# Altium footprint library TI_LM96570SQXNOPB.PcbLib: 1 footprints
Each footprint in its own frame and in the unit in brackets; x right, y up, seen from the top. Pads: shape width x height; smd on the part's side, far side on the other; paste and mask are expansions set on the pad; w line width, h text height; cw(c..) or ccw(c..) is an arc to the next point about the centre after c.
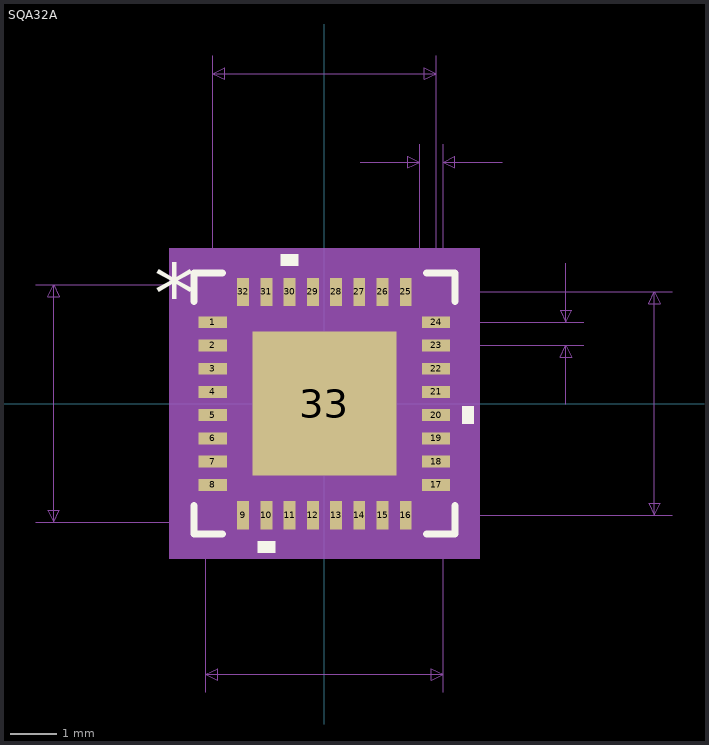
[diagram p0: the footprint, top view; thin cyan lines are the x and y axes]

## SQA32A [mil]
pads (33):
  rect 24x10 smd paste-5: 1(-94.5,68.9) 2(-94.5,49.21) 3(-94.5,29.53) 4(-94.5,9.84) 5(-94.5,-9.84) 6(-94.5,-29.53) 7(-94.5,-49.21) 8(-94.5,-68.9) 17(94.5,-68.9) 18(94.5,-49.21) 19(94.5,-29.53) 20(94.5,-9.84) 21(94.5,9.84) 22(94.5,29.53) 23(94.5,49.21) 24(94.5,68.9)
  rect 10x24 smd paste-5: 9(-68.9,-94.5) 10(-49.21,-94.5) 11(-29.53,-94.5) 12(-9.84,-94.5) 13(9.84,-94.5) 14(29.53,-94.5) 15(49.21,-94.5) 16(68.9,-94.5) 25(68.9,94.5) 26(49.21,94.5) 27(29.53,94.5) 28(9.84,94.5) 29(-9.84,94.5) 30(-29.53,94.5) 31(-49.21,94.5) 32(-68.9,94.5)
  rect 122x122 smd paste-61: 33(0,0)
Top Overlay:
  region: -22.03,116.5 -37.03,116.5 -37.03,126.5 -22.03,126.5
  region: 116.5,-2.34 126.5,-2.34 126.5,-17.34 116.5,-17.34
  region: -41.71,-116.5 -56.71,-116.5 -56.71,-126.5 -41.71,-126.5
  lines w6: -110.5,-86.37 -110.5,-110.5 -86.37,-110.5 ; -110.5,86.37 -110.5,110.5 -86.37,110.5 ; 86.37,-110.5 110.5,-110.5 110.5,-86.37 ; 86.37,110.5 110.5,110.5 110.5,86.37
  text "*" at -144,68.74 h50
Top Paste:
  region: 54.94,-3.94 3.94,-3.94 3.94,-54.94 54.94,-54.94
  region: 54.94,54.94 3.94,54.94 3.94,3.94 54.94,3.94
  region: -3.94,-3.94 -54.94,-3.94 -54.94,-54.94 -3.94,-54.94
  region: -3.94,54.94 -54.94,54.94 -54.94,3.94 -3.94,3.94
  region: -63.9,114.5 -73.9,114.5 -73.9,90.5 -63.9,90.5
  region: -44.21,114.5 -54.21,114.5 -54.21,90.5 -44.21,90.5
  region: -24.53,114.5 -34.53,114.5 -34.53,90.5 -24.53,90.5
  region: -4.84,114.5 -14.84,114.5 -14.84,90.5 -4.84,90.5
  region: 14.84,114.5 4.84,114.5 4.84,90.5 14.84,90.5
  region: 34.53,114.5 24.53,114.5 24.53,90.5 34.53,90.5
  region: 54.21,114.5 44.21,114.5 44.21,90.5 54.21,90.5
  region: 73.9,114.5 63.9,114.5 63.9,90.5 73.9,90.5
  region: 114.5,73.9 90.5,73.9 90.5,63.9 114.5,63.9
  region: 114.5,54.21 90.5,54.21 90.5,44.21 114.5,44.21
  region: 114.5,34.53 90.5,34.53 90.5,24.53 114.5,24.53
  region: 114.5,14.84 90.5,14.84 90.5,4.84 114.5,4.84
  region: 114.5,-4.84 90.5,-4.84 90.5,-14.84 114.5,-14.84
  region: 114.5,-24.53 90.5,-24.53 90.5,-34.53 114.5,-34.53
  region: 114.5,-44.21 90.5,-44.21 90.5,-54.21 114.5,-54.21
  region: 114.5,-63.9 90.5,-63.9 90.5,-73.9 114.5,-73.9
  region: 73.9,-90.5 63.9,-90.5 63.9,-114.5 73.9,-114.5
  region: 54.21,-90.5 44.21,-90.5 44.21,-114.5 54.21,-114.5
  region: 34.53,-90.5 24.53,-90.5 24.53,-114.5 34.53,-114.5
  region: 14.84,-90.5 4.84,-90.5 4.84,-114.5 14.84,-114.5
  region: -4.84,-90.5 -14.84,-90.5 -14.84,-114.5 -4.84,-114.5
  region: -24.53,-90.5 -34.53,-90.5 -34.53,-114.5 -24.53,-114.5
  region: -44.21,-90.5 -54.21,-90.5 -54.21,-114.5 -44.21,-114.5
  region: -63.9,-90.5 -73.9,-90.5 -73.9,-114.5 -63.9,-114.5
  region: -90.5,-63.9 -114.5,-63.9 -114.5,-73.9 -90.5,-73.9
  region: -90.5,-44.21 -114.5,-44.21 -114.5,-54.21 -90.5,-54.21
  region: -90.5,-24.53 -114.5,-24.53 -114.5,-34.53 -90.5,-34.53
  region: -90.5,-4.84 -114.5,-4.84 -114.5,-14.84 -90.5,-14.84
  region: -90.5,14.84 -114.5,14.84 -114.5,4.84 -90.5,4.84
  region: -90.5,34.53 -114.5,34.53 -114.5,24.53 -90.5,24.53
  region: -90.5,54.21 -114.5,54.21 -114.5,44.21 -90.5,44.21
  region: -90.5,73.9 -114.5,73.9 -114.5,63.9 -90.5,63.9
Mechanical 5:
  region: 131.5,-131.5 -131.5,-131.5 -131.5,131.5 131.5,131.5
Mechanical 7:
  lines w1: -244.5,-100.5 100.5,-100.5 ; -244.5,100.5 100.5,100.5 100.5,-244.5 ; -100.5,-244.5 -100.5,100.5 ; -94.5,68.9 -94.5,294.5 ; 30.5,204.5 80.5,204.5 ; 68.9,-94.5 294.5,-94.5 ; 68.9,94.5 294.5,94.5 ; 80.5,68.9 80.5,219.5 ; 94.5,49.21 219.5,49.21 ; 94.5,294.5 94.5,68.9 219.5,68.9 ; 100.5,68.9 100.5,219.5 ; 150.5,204.5 100.5,204.5 ; 204.5,-0.79 204.5,49.21 ; 204.5,118.9 204.5,68.9 ; -229.5,-100.5 -224.5,-90.5 -234.5,-90.5 -229.5,-100.5 ; -229.5,-100.5 -229.5,100.5 ; -229.5,100.5 -224.5,90.5 -234.5,90.5 -229.5,100.5 ; -100.5,-229.5 -90.5,-234.5 -90.5,-224.5 -100.5,-229.5 ; -100.5,-229.5 100.5,-229.5 ; -94.5,279.5 -84.5,274.5 -84.5,284.5 -94.5,279.5 ; -94.5,279.5 94.5,279.5 ; 80.5,204.5 70.5,199.5 70.5,209.5 80.5,204.5 ; 94.5,279.5 84.5,274.5 84.5,284.5 94.5,279.5 ; 100.5,-229.5 90.5,-234.5 90.5,-224.5 100.5,-229.5 ; 100.5,204.5 110.5,199.5 110.5,209.5 100.5,204.5 ; 204.5,49.21 209.5,39.21 199.5,39.21 204.5,49.21 ; 204.5,68.9 209.5,78.9 199.5,78.9 204.5,68.9 ; 279.5,-94.5 284.5,-84.5 274.5,-84.5 279.5,-94.5 ; 279.5,-94.5 279.5,94.5 ; 279.5,94.5 284.5,84.5 274.5,84.5 279.5,94.5
  text ".201in/5.105mm" at -87.5,-274.5 h25
  text ".201in/5.105mm" at -424.5,-12.5 h25
  text ".189in/4.801mm" at 299.5,-12.5 h25
  text ".189in/4.801mm" at -87.5,299.5 h25
  text ".02in/.508mm" at 15.5,224.5 h25
  text "1.968504E-02in/.5mm" at 224.5,46.56 h25
  text "Default Padstyle: RX10Y24D0T" at -350,-354.5 h50
Mechanical 13:
  lines w1: -100.5,50.5 -50.5,100.5 ; -100.5,-100.5 -100.5,100.5 100.5,100.5 100.5,-100.5 -100.5,-100.5 ; -100.5,-74.9 -100.5,-62.9 -100.5,-74.9 ; -100.5,-55.21 -100.5,-43.21 -100.5,-55.21 ; -100.5,-35.53 -100.5,-23.53 -100.5,-35.53 ; -100.5,-15.84 -100.5,-3.84 -100.5,-15.84 ; -100.5,3.84 -100.5,15.84 -100.5,3.84 ; -100.5,23.53 -100.5,35.53 -100.5,23.53 ; -100.5,43.21 -100.5,55.21 -100.5,43.21 ; -100.5,62.9 -100.5,74.9 -100.5,62.9 ; -74.9,-100.5 -62.9,-100.5 -74.9,-100.5 ; -74.9,100.5 -62.9,100.5 -74.9,100.5 ; -55.21,-100.5 -43.21,-100.5 -55.21,-100.5 ; -55.21,100.5 -43.21,100.5 -55.21,100.5 ; -35.53,-100.5 -23.53,-100.5 -35.53,-100.5 ; -35.53,100.5 -23.53,100.5 -35.53,100.5 ; -15.84,-100.5 -3.84,-100.5 -15.84,-100.5 ; -15.84,100.5 -3.84,100.5 -15.84,100.5 ; 3.84,-100.5 15.84,-100.5 3.84,-100.5 ; 3.84,100.5 15.84,100.5 3.84,100.5 ; 23.53,-100.5 35.53,-100.5 23.53,-100.5 ; 23.53,100.5 35.53,100.5 23.53,100.5 ; 43.21,-100.5 55.21,-100.5 43.21,-100.5 ; 43.21,100.5 55.21,100.5 43.21,100.5 ; 62.9,-100.5 74.9,-100.5 62.9,-100.5 ; 62.9,100.5 74.9,100.5 62.9,100.5 ; 100.5,-74.9 100.5,-62.9 100.5,-74.9 ; 100.5,-55.21 100.5,-43.21 100.5,-55.21 ; 100.5,-35.53 100.5,-23.53 100.5,-35.53 ; 100.5,-15.84 100.5,-3.84 100.5,-15.84 ; 100.5,3.84 100.5,15.84 100.5,3.84 ; 100.5,23.53 100.5,35.53 100.5,23.53 ; 100.5,43.21 100.5,55.21 100.5,43.21 ; 100.5,62.9 100.5,74.9 100.5,62.9
  text "*" at -144,68.74 h50
Mechanical 15:
  region: 116.5,-116.5 -116.5,-116.5 -116.5,116.5 116.5,116.5
  lines w6: -116.5,-116.5 116.5,-116.5 116.5,116.5 -116.5,116.5 -116.5,-116.5
3D body: height 10, standoff 0, extent 0,0 10,10